# EAGLE library part MAX6818 (library Eric Navarrete Custom Parts Feb 2019)
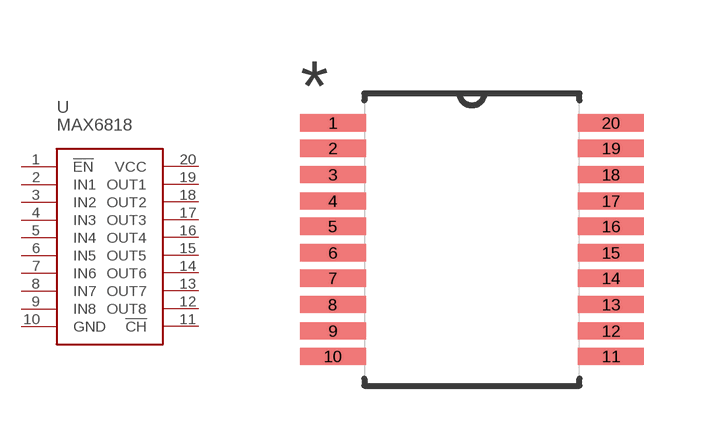
[diagram p27: symbol with the pads of 20SSOP; footprint 20SSOP]

Designator prefix U

## MAX6818  [20SSOP]
1  !EN
2  IN1
3  IN2
4  IN3
5  IN4
6  IN5
7  IN6
8  IN7
9  IN8
10  GND
11  !CH
12  OUT8
13  OUT7
14  OUT6
15  OUT5
16  OUT4
17  OUT3
18  OUT2
19  OUT1
20  VCC

## Footprint 20SSOP (pad centres in mm)
smd 1.651 x 0.432: 1 -3.48,2.921; 2 -3.48,2.286; 3 -3.48,1.626; 4 -3.48,0.965; 5 -3.48,0.33; 6 -3.48,-0.33; 7 -3.48,-0.965; 8 -3.48,-1.626; 9 -3.48,-2.286; 10 -3.48,-2.921; 11 3.48,-2.921; 12 3.48,-2.286; 13 3.48,-1.626; 14 3.48,-0.965; 15 3.48,-0.33; 16 3.48,0.33; 17 3.48,0.965; 18 3.48,1.626; 19 3.48,2.286; 20 3.48,2.921